# EAGLE library part 1PORT_ETHERNET (library strukt)
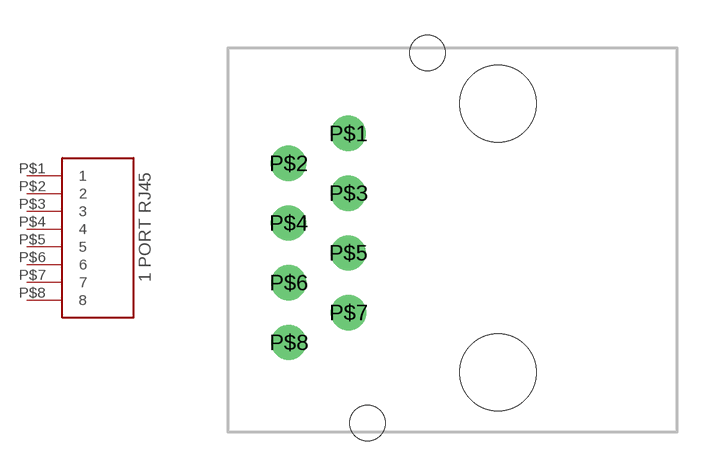
[diagram p1: symbol with the pads of 1PORT_ETHERNET; footprint 1PORT_ETHERNET]

Designator prefix -

## 1PORT_ETHERNET  [1PORT_ETHERNET]
P$1  1
P$2  2
P$3  3
P$4  4
P$5  5
P$6  6
P$7  7
P$8  8

## Footprint 1PORT_ETHERNET (pad centres in mm)
drill 0.9 pad 1.5 round: P$1 -3.82,3.81; P$2 -6.36,2.54; P$3 -3.82,1.27; P$4 -6.36,0; P$5 -3.82,-1.27; P$6 -6.35,-2.54; P$7 -3.81,-3.81; P$8 -6.35,-5.08
hole 3.25 at 2.54,-6.35
hole 3.25 at 2.54,5.08
hole 1.5 at -3,-8.51
hole 1.5 at -0.46,7.24